# Altium footprint library micro-harris.PCBLIB: 11 footprints
Each footprint in its own frame and in the unit in brackets; x right, y up, seen from the top. Pads: shape width x height; smd on the part's side, far side on the other; paste and mask are expansions set on the pad; w line width, h text height; cw(c..) or ccw(c..) is an arc to the next point about the centre after c.
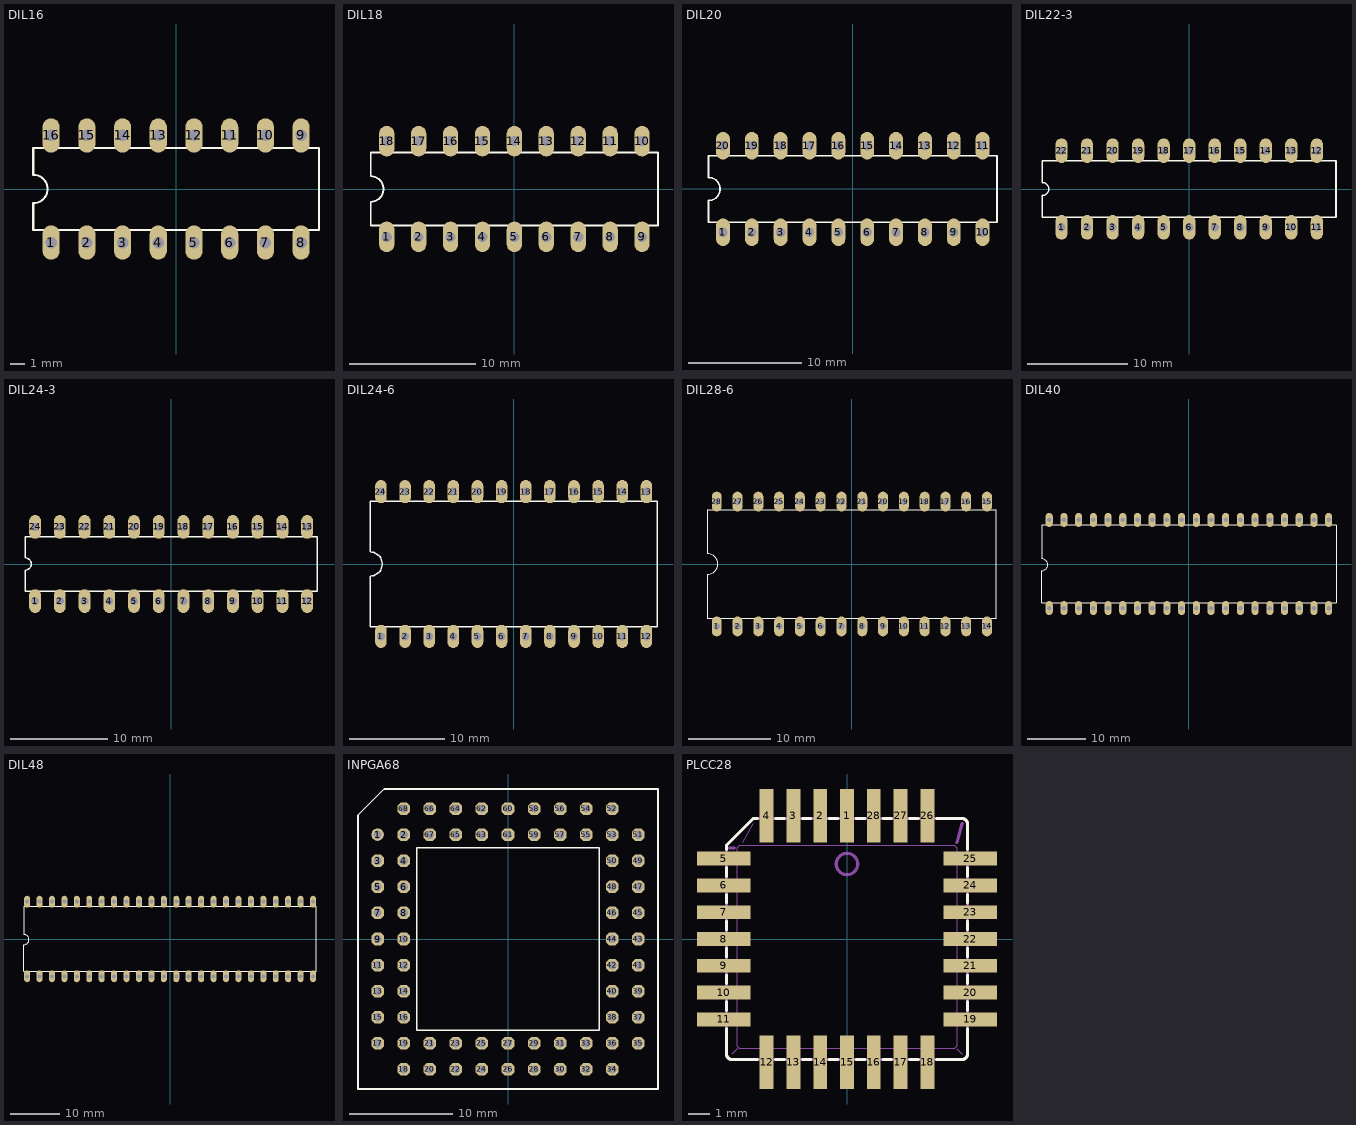
[diagram p0: the footprints below, top view; thin cyan lines are the x and y axes]

## DIL16 [mil]
pads (16):
  oval 48x96 hole 32: 1(-350,-150) 2(-250,-150) 3(-150,-150) 4(-50,-150) 5(50,-150) 6(150,-150) 7(250,-150) 8(350,-150) 9(350,150) 10(250,150) 11(150,150) 12(50,150) 13(-50,150) 14(-150,150) 15(-250,150) 16(-350,150)
Top Overlay:
  lines w6: -400,-115 400,-115 400,115 -400,115 -400,40 cw(c-400,0) -400,-40 -400,-115

## DIL18 [mil]
pads (18):
  oval 48x96 hole 32: 1(-400,-150) 2(-300,-150) 3(-200,-150) 4(-100,-150) 5(0,-150) 6(100,-150) 7(200,-150) 8(300,-150) 9(400,-150) 10(400,150) 11(300,150) 12(200,150) 13(100,150) 14(0,150) 15(-100,150) 16(-200,150) 17(-300,150) 18(-400,150)
Top Overlay:
  lines w6: -450,-115 450,-115 450,115 -450,115 -450,40 cw(c-450,0) -450,-40 -450,-115

## DIL20 [mil]
pads (20):
  oval 48x96 hole 32: 1(-450,-150) 2(-350,-150) 3(-250,-150) 4(-150,-150) 5(-50,-150) 6(50,-150) 7(150,-150) 8(250,-150) 9(350,-150) 10(450,-150) 11(450,150) 12(350,150) 13(250,150) 14(150,150) 15(50,150) 16(-50,150) 17(-150,150) 18(-250,150) 19(-350,150) 20(-450,150)
Top Overlay:
  lines w6: -500,-115 500,-115 500,115 -500,115 -500,40 cw(c-500,0) -500,-40 -500,-115

## DIL22-3 [mil]
pads (22):
  oval 48x96 hole 32: 1(-500,-150) 2(-400,-150) 3(-300,-150) 4(-200,-150) 5(-100,-150) 6(0,-150) 7(100,-150) 8(200,-150) 9(300,-150) 10(400,-150) 11(500,-150) 12(500,150) 13(400,150) 14(300,150) 15(200,150) 16(100,150) 17(0,150) 18(-100,150) 19(-200,150) 20(-300,150) 21(-400,150) 22(-500,150)
Top Overlay:
  lines w6: -575,-110 -575,-25 ccw(c-575,0) -575,25 -575,110 575,110 575,-110 -575,-110

## DIL24-3 [mil]
pads (24):
  oval 48x96 hole 32: 1(-550,-150) 2(-450,-150) 3(-350,-150) 4(-250,-150) 5(-150,-150) 6(-50,-150) 7(50,-150) 8(150,-150) 9(250,-150) 10(350,-150) 11(450,-150) 12(550,-150) 13(550,150) 14(450,150) 15(350,150) 16(250,150) 17(150,150) 18(50,150) 19(-50,150) 20(-150,150) 21(-250,150) 22(-350,150) 23(-450,150) 24(-550,150)
Top Overlay:
  lines w6: -590,-110 -590,-25 ccw(c-590,0) -590,25 -590,110 590,110 590,-110 -590,-110

## DIL24-6 [mil]
pads (24):
  oval 48x96 hole 32: 1(-550,-300) 2(-450,-300) 3(-350,-300) 4(-250,-300) 5(-150,-300) 6(-50,-300) 7(50,-300) 8(150,-300) 9(250,-300) 10(350,-300) 11(450,-300) 12(550,-300) 13(550,300) 14(450,300) 15(350,300) 16(250,300) 17(150,300) 18(50,300) 19(-50,300) 20(-150,300) 21(-250,300) 22(-350,300) 23(-450,300) 24(-550,300)
Top Overlay:
  lines w6: -595,-260 -595,-50 ccw(c-595,0) -595,50 -595,260 595,260 595,-260 -595,-260

## DIL28-6 [mil]
pads (28):
  oval 48x96 hole 32: 1(-650,-300) 2(-550,-300) 3(-450,-300) 4(-350,-300) 5(-250,-300) 6(-150,-300) 7(-50,-300) 8(50,-300) 9(150,-300) 10(250,-300) 11(350,-300) 12(450,-300) 13(550,-300) 14(650,-300) 15(650,300) 16(550,300) 17(450,300) 18(350,300) 19(250,300) 20(150,300) 21(50,300) 22(-50,300) 23(-150,300) 24(-250,300) 25(-350,300) 26(-450,300) 27(-550,300) 28(-650,300)
Top Overlay:
  lines w6: -695,-260 -695,-50 ccw(c-695,0) -695,50 -695,260 695,260 695,-260 -695,-260

## DIL40 [mil]
pads (40):
  oval 48x96 hole 32: 1(-950,-300) 2(-850,-300) 3(-750,-300) 4(-650,-300) 5(-550,-300) 6(-450,-300) 7(-350,-300) 8(-250,-300) 9(-150,-300) 10(-50,-300) 11(50,-300) 12(150,-300) 13(250,-300) 14(350,-300) 15(450,-300) 16(550,-300) 17(650,-300) 18(750,-300) 19(850,-300) 20(950,-300) 21(950,300) 22(850,300) 23(750,300) 24(650,300) 25(550,300) 26(450,300) 27(350,300) 28(250,300) 29(150,300) 30(50,300) 31(-50,300) 32(-150,300) 33(-250,300) 34(-350,300) 35(-450,300) 36(-550,300) 37(-650,300) 38(-750,300) 39(-850,300) 40(-950,300)
Top Overlay:
  lines w6: -1000,-265 1000,-265 1000,265 -1000,265 -1000,35 cw(c-1000,-5) -1000,-45 -1000,-265

## DIL48 [mil]
pads (48):
  oval 48x96 hole 32: 1(-1150,-300) 2(-1050,-300) 3(-950,-300) 4(-850,-300) 5(-750,-300) 6(-650,-300) 7(-550,-300) 8(-450,-300) 9(-350,-300) 10(-250,-300) 11(-150,-300) 12(-50,-300) 13(50,-300) 14(150,-300) 15(250,-300) 16(350,-300) 17(450,-300) 18(550,-300) 19(650,-300) 20(750,-300) 21(850,-300) 22(950,-300) 23(1050,-300) 24(1150,-300) 25(1150,300) 26(1050,300) 27(950,300) 28(850,300) 29(750,300) 30(650,300) 31(550,300) 32(450,300) 33(350,300) 34(250,300) 35(150,300) 36(50,300) 37(-50,300) 38(-150,300) 39(-250,300) 40(-350,300) 41(-450,300) 42(-550,300) 43(-650,300) 44(-750,300) 45(-850,300) 46(-950,300) 47(-1050,300) 48(-1150,300)
Top Overlay:
  lines w6: -1175,-260 1175,-260 1175,260 -1175,260 -1175,35 cw(c-1175,-5) -1175,-45 -1175,-260

## INPGA68 [mil]
pads (68):
  round 48 hole 32: 1(-500,400)
  oct 48x48 hole 32: 2(-400,400) 3(-500,300) 4(-400,300) 5(-500,200) 6(-400,200) 7(-500,100) 8(-400,100) 9(-500,0) 10(-400,0) 11(-500,-100) 12(-400,-100) 13(-500,-200) 14(-400,-200) 15(-500,-300) 16(-400,-300) 17(-500,-400) 18(-400,-500) 19(-400,-400) 20(-300,-500) 21(-300,-400) 22(-200,-500) 23(-200,-400) 24(-100,-500) 25(-100,-400) 26(0,-500) 27(0,-400) 28(100,-500) 29(100,-400) 30(200,-500) 31(200,-400) 32(300,-500) 33(300,-400) 34(400,-500) 35(500,-400) 36(400,-400) 37(500,-300) 38(400,-300) 39(500,-200) 40(400,-200) 41(500,-100) 42(400,-100) 43(500,0) 44(400,0) 45(500,100) 46(400,100) 47(500,200) 48(400,200) 49(500,300) 50(400,300) 51(500,400) 52(400,500) 53(400,400) 54(300,500) 55(300,400) 56(200,500) 57(200,400) 58(100,500) 59(100,400) 60(0,500) 61(0,400) 62(-100,500) 63(-100,400) 64(-200,500) 65(-200,400) 66(-300,500) 67(-300,400) 68(-400,500)
Top Overlay:
  lines w6: -575,-575 575,-575 575,575 -475,575 -575,475 -575,-575 ; -350,-350 -350,350 350,350 350,-350 -350,-350

## PLCC28 [mil]
pads (28):
  rect 26x100 smd: 1(0,230) 2(-50,230) 3(-100,230) 4(-150,230) 12(-150,-230) 13(-100,-230) 14(-50,-230) 15(0,-230) 16(50,-230) 17(100,-230) 18(150,-230) 26(150,230) 27(100,230) 28(50,230)
  rect 100x26 smd: 5(-230,150) 6(-230,100) 7(-230,50) 8(-230,0) 9(-230,-50) 10(-230,-100) 11(-230,-150) 19(230,-150) 20(230,-100) 21(230,-50) 22(230,0) 23(230,50) 24(230,100) 25(230,150)
Top Overlay:
  lines w6: -225,-167 -225,-215 ccw(c-215,-215) -215,-225 -167,-225 ; -225,-133 -225,-117 ; -225,-83 -225,-67 ; -225,-33 -225,-17 ; -225,17 -225,33 ; -225,67 -225,83 ; -225,117 -225,133 ; -225,167 -225,175 -175,225 -167,225 ; -133,-225 -117,-225 ; -133,225 -117,225 ; -83,-225 -67,-225 ; -83,225 -67,225 ; -33,-225 -17,-225 ; -33,225 -17,225 ; 17,-225 33,-225 ; 17,225 33,225 ; 67,-225 83,-225 ; 67,225 83,225 ; 117,-225 133,-225 ; 117,225 133,225 ; 167,-225 215,-225 ccw(c215,-215) 225,-215 225,-167 ; 167,225 215,225 cw(c215,215) 225,215 225,167 ; 225,-133 225,-117 ; 225,-83 225,-67 ; 225,-33 225,-17 ; 225,17 225,33 ; 225,67 225,83 ; 225,117 225,133
Mechanical 16:
  circle w6: c0,140 r20
  rectangle: 225,90 250,110
  rectangle: 225,140 250,160
  rectangle: 225,-160 250,-140
  rectangle: 225,-110 250,-90
  rectangle: 225,-60 250,-40
  rectangle: 225,-10 250,10
  rectangle: 225,40 250,60
  rectangle: 90,-250 110,-225
  rectangle: 140,-250 160,-225
  rectangle: -160,-250 -140,-225
  rectangle: -110,-250 -90,-225
  rectangle: -60,-250 -40,-225
  rectangle: -10,-250 10,-225
  rectangle: 40,-250 60,-225
  rectangle: -250,-110 -225,-90
  rectangle: -250,-160 -225,-140
  rectangle: -250,140 -225,160
  rectangle: -250,90 -225,110
  rectangle: -250,40 -225,60
  rectangle: -250,-10 -225,10
  rectangle: -250,-60 -225,-40
  rectangle: -110,225 -90,250
  rectangle: -160,225 -140,250
  rectangle: 140,225 160,250
  rectangle: 90,225 110,250
  rectangle: 40,225 60,250
  rectangle: -10,225 10,250
  rectangle: -60,225 -40,250
  lines w2: -215,-215 -205,-205 ; -195,180 -175,215 ; 205,-205 215,-215 ; -205,-200 -200,-205 200,-205 205,-200 205,170 200,175 -200,175 -205,170 -205,-200
  lines w6: -225,-165 -225,-135 ; -225,-115 -225,-85 ; -225,-65 -225,-35 ; -225,-15 -225,15 ; -225,35 -225,65 ; -225,85 -225,115 ; -225,135 -225,165 ; -220,170 -210,170 ; -165,-225 -135,-225 ; -165,225 -135,225 ; -115,-225 -85,-225 ; -115,225 -85,225 ; -65,-225 -35,-225 ; -65,225 -35,225 ; -15,-225 15,-225 ; -15,225 15,225 ; 35,-225 65,-225 ; 35,225 65,225 ; 85,-225 115,-225 ; 85,225 115,225 ; 135,-225 165,-225 ; 135,225 165,225 ; 205,180 215,215 ; 225,-165 225,-135 ; 225,-115 225,-85 ; 225,-65 225,-35 ; 225,-15 225,15 ; 225,35 225,65 ; 225,85 225,115 ; 225,135 225,165